# Altium footprint library AMC1301DWVR.PcbLib: 3 footprints
Each footprint in its own frame and in the unit in brackets; x right, y up, seen from the top. Pads: shape width x height; smd on the part's side, far side on the other; paste and mask are expansions set on the pad; w line width, h text height; cw(c..) or ccw(c..) is an arc to the next point about the centre after c.
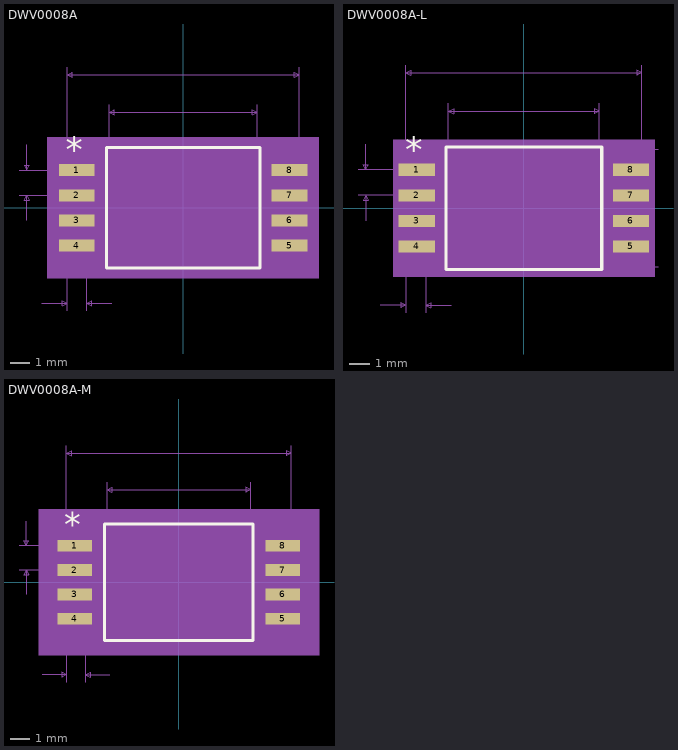
[diagram p0: the footprints below, top view; thin cyan lines are the x and y axes]

## DWV0008A [mil]
pads (8):
  rect 71x24 smd paste+0 mask+3: 1(-211.5,75) 2(-211.5,25) 3(-211.5,-25) 4(-211.5,-75) 5(211.5,-75) 6(211.5,-25) 7(211.5,25) 8(211.5,75)
Top Overlay:
  lines w6: -152.5,-120 -152.5,120 152.5,120 152.5,-120 -152.5,-120
  text "*" at -234,92 h50
Mechanical 5:
  region: 270,-140 -270,-140 -270,140 270,140
Mechanical 7:
  lines w1: -326.5,25 -211.5,25 ; -326.5,75 -211.5,75 ; -311.5,-25 -311.5,25 ; -311.5,125 -311.5,75 ; -281,-190 -231,-190 ; -231,-205 -231,0 -231,280 ; -192,-205 -192,0 ; -147.5,0 -147.5,205 ; -142,-190 -192,-190 ; 0,-115 262.5,-115 ; 0,115 262.5,115 ; 147.5,0 147.5,205 ; 231,0 231,280 ; -311.5,25 -306.5,15 -316.5,15 -311.5,25 ; -311.5,75 -306.5,85 -316.5,85 -311.5,75 ; -231,-190 -241,-195 -241,-185 -231,-190 ; -231,265 -221,260 -221,270 -231,265 ; -231,265 231,265 ; -192,-190 -182,-195 -182,-185 -192,-190 ; -147.5,190 -137.5,185 -137.5,195 -147.5,190 ; -147.5,190 147.5,190 ; 147.5,190 137.5,185 137.5,195 147.5,190 ; 231,265 221,260 221,270 231,265 ; 247.5,-115 252.5,-105 242.5,-105 247.5,-115 ; 247.5,-115 247.5,115 ; 247.5,115 252.5,105 242.5,105 247.5,115
  text "0.039in/0.991mm" at -305.25,-235 h25
  text "0.05in/1.27mm" at -494,37.5 h25
  text "0.23in/5.842mm" at 267.5,-12.5 h25
  text "0.462in/11.735mm" at -100,285 h25
  text "0.295in/7.493mm" at -93.75,210 h25
  text "Alt 2 Padstyle: OX90Y60D30P" at -337.5,-615 h50
  text "Alt 1 Padstyle: RX71Y24D0T" at -325,-555 h50
  text "Pin One Padstyle: RX67Y22D0T" at -350,-375 h50
  text "Default Padstyle: RX67Y22D0T" at -350,-315 h50
Mechanical 13:
  lines w0: -12,115 ccw(c0,115) 12,115
  lines w1: -231,-85 -147.5,-85 -147.5,-65 -231,-65 -231,-85 ; -231,-35 -147.5,-35 -147.5,-15 -231,-15 -231,-35 ; -231,15 -147.5,15 -147.5,35 -231,35 -231,15 ; -231,65 -147.5,65 -147.5,85 -231,85 -231,65 ; -147.5,-115 -147.5,115 147.5,115 147.5,-115 -147.5,-115 ; 147.5,-85 231,-85 231,-65 147.5,-65 147.5,-85 ; 147.5,-35 231,-35 231,-15 147.5,-15 147.5,-35 ; 147.5,15 231,15 231,35 147.5,35 147.5,15 ; 147.5,65 231,65 231,85 147.5,85 147.5,65
  text "*" at -145,62 h50
Mechanical 15:
  region: -157.5,-96 -255,-96 -255,96 -157.5,96 -157.5,125 157.5,125 157.5,96 255,96 255,-96 157.5,-96 157.5,-125 -157.5,-125
  lines w6: -255,-96 -157.5,-96 -157.5,-125 157.5,-125 157.5,-96 255,-96 255,96 157.5,96 157.5,125 -157.5,125 -157.5,96 -255,96 -255,-96
3D body: height 10, standoff 0, extent 0,0 10,10

## DWV0008A-L [mil]
pads (8):
  rect 71x24 smd paste+0 mask+3: 1(-209.5,75) 2(-209.5,25) 3(-209.5,-25) 4(-209.5,-75) 5(209.5,-75) 6(209.5,-25) 7(209.5,25) 8(209.5,75)
Top Overlay:
  lines w6: -152.5,-120 152.5,-120 152.5,120 -152.5,120 -152.5,-120
  text "*" at -232,90 h50
Mechanical 5:
  region: 256,-134 -256,-134 -256,134 256,134
Mechanical 7:
  lines w1: -324.5,25 -209.5,25 ; -324.5,75 -209.5,75 ; -309.5,-25 -309.5,25 ; -309.5,125 -309.5,75 ; -281,-190 -231,-190 ; -231,-205 -231,0 -231,280 ; -192,-205 -192,0 ; -147.5,0 -147.5,205 ; -142,-190 -192,-190 ; 0,-115 262.5,-115 ; 0,115 262.5,115 ; 147.5,0 147.5,205 ; 231,0 231,280 ; -309.5,25 -314.5,15 -304.5,15 -309.5,25 ; -309.5,75 -314.5,85 -304.5,85 -309.5,75 ; -231,-190 -241,-185 -241,-195 -231,-190 ; -231,265 231,265 ; -231,265 -221,270 -221,260 -231,265 ; -192,-190 -182,-185 -182,-195 -192,-190 ; -147.5,190 147.5,190 ; -147.5,190 -137.5,195 -137.5,185 -147.5,190 ; 147.5,190 137.5,195 137.5,185 147.5,190 ; 231,265 221,270 221,260 231,265 ; 247.5,-115 247.5,115 ; 247.5,-115 242.5,-105 252.5,-105 247.5,-115 ; 247.5,115 242.5,105 252.5,105 247.5,115
  text "Default Padstyle: RX55Y20D0T" at -350,-315 h50
  text "Pin One Padstyle: RX55Y20D0T" at -350,-375 h50
  text "Alt 1 Padstyle: RX71Y24D0T" at -325,-555 h50
  text "Alt 2 Padstyle: OX90Y60D30P" at -337.5,-615 h50
  text "0.295in/7.493mm" at -93.75,210 h25
  text "0.462in/11.735mm" at -100,285 h25
  text "0.23in/5.842mm" at 267.5,-12.5 h25
  text "0.05in/1.27mm" at -492,37.5 h25
  text "0.039in/0.991mm" at -305.25,-235 h25
Mechanical 13:
  lines w0: -12,115 ccw(c0,115) 12,115
  lines w1: -231,-85 -231,-65 -147.5,-65 -147.5,-85 -231,-85 ; -231,-35 -231,-15 -147.5,-15 -147.5,-35 -231,-35 ; -231,15 -231,35 -147.5,35 -147.5,15 -231,15 ; -231,65 -231,85 -147.5,85 -147.5,65 -231,65 ; -147.5,-115 147.5,-115 147.5,115 -147.5,115 -147.5,-115 ; 147.5,-85 147.5,-65 231,-65 231,-85 147.5,-85 ; 147.5,-35 147.5,-15 231,-15 231,-35 147.5,-35 ; 147.5,15 147.5,35 231,35 231,15 147.5,15 ; 147.5,65 147.5,85 231,85 231,65 147.5,65
  text "*" at -145,62 h50
Mechanical 15:
  region: -151.5,-89 -241,-89 -241,89 -151.5,89 -151.5,119 151.5,119 151.5,89 241,89 241,-89 151.5,-89 151.5,-119 -151.5,-119
  lines w6: -241,-89 -241,89 -151.5,89 -151.5,119 151.5,119 151.5,89 241,89 241,-89 151.5,-89 151.5,-119 -151.5,-119 -151.5,-89 -241,-89
3D body: height 10, standoff 0, extent 0,0 10,10

## DWV0008A-M [mil]
pads (8):
  rect 71x24 smd paste+0 mask+3: 1(-213.5,75) 2(-213.5,25) 3(-213.5,-25) 4(-213.5,-75) 5(213.5,-75) 6(213.5,-25) 7(213.5,25) 8(213.5,75)
Top Overlay:
  lines w6: -152.5,-120 152.5,-120 152.5,120 -152.5,120 -152.5,-120
  text "*" at -236,94 h50
Mechanical 5:
  region: 288,-150 -288,-150 -288,150 288,150
Mechanical 7:
  lines w1: -328.5,25 -213.5,25 ; -328.5,75 -213.5,75 ; -313.5,-25 -313.5,25 ; -313.5,125 -313.5,75 ; -281,-190 -231,-190 ; -231,-205 -231,0 -231,280 ; -192,-205 -192,0 ; -147.5,0 -147.5,205 ; -142,-190 -192,-190 ; 0,-115 262.5,-115 ; 0,115 262.5,115 ; 147.5,0 147.5,205 ; 231,0 231,280 ; -313.5,25 -318.5,15 -308.5,15 -313.5,25 ; -313.5,75 -318.5,85 -308.5,85 -313.5,75 ; -231,-190 -241,-185 -241,-195 -231,-190 ; -231,265 231,265 ; -231,265 -221,270 -221,260 -231,265 ; -192,-190 -182,-185 -182,-195 -192,-190 ; -147.5,190 147.5,190 ; -147.5,190 -137.5,195 -137.5,185 -147.5,190 ; 147.5,190 137.5,195 137.5,185 147.5,190 ; 231,265 221,270 221,260 231,265 ; 247.5,-115 247.5,115 ; 247.5,-115 242.5,-105 252.5,-105 247.5,-115 ; 247.5,115 242.5,105 252.5,105 247.5,115
  text "Default Padstyle: RX79Y24D0T" at -350,-315 h50
  text "Pin One Padstyle: RX79Y24D0T" at -350,-375 h50
  text "Alt 1 Padstyle: RX71Y24D0T" at -325,-555 h50
  text "Alt 2 Padstyle: OX90Y60D30P" at -337.5,-615 h50
  text "0.295in/7.493mm" at -93.75,210 h25
  text "0.462in/11.735mm" at -100,285 h25
  text "0.23in/5.842mm" at 267.5,-12.5 h25
  text "0.05in/1.27mm" at -496,37.5 h25
  text "0.039in/0.991mm" at -305.25,-235 h25
Mechanical 13:
  lines w0: -12,115 ccw(c0,115) 12,115
  lines w1: -231,-85 -231,-65 -147.5,-65 -147.5,-85 -231,-85 ; -231,-35 -231,-15 -147.5,-15 -147.5,-35 -231,-35 ; -231,15 -231,35 -147.5,35 -147.5,15 -231,15 ; -231,65 -231,85 -147.5,85 -147.5,65 -231,65 ; -147.5,-115 147.5,-115 147.5,115 -147.5,115 -147.5,-115 ; 147.5,-85 147.5,-65 231,-65 231,-85 147.5,-85 ; 147.5,-35 147.5,-15 231,-15 231,-35 147.5,-35 ; 147.5,15 147.5,35 231,35 231,15 147.5,15 ; 147.5,65 147.5,85 231,85 231,65 147.5,65
  text "*" at -145,62 h50
Mechanical 15:
  region: -167.5,-107 -273,-107 -273,107 -167.5,107 -167.5,135 167.5,135 167.5,107 273,107 273,-107 167.5,-107 167.5,-135 -167.5,-135
  lines w6: -273,-107 -273,107 -167.5,107 -167.5,135 167.5,135 167.5,107 273,107 273,-107 167.5,-107 167.5,-135 -167.5,-135 -167.5,-107 -273,-107
3D body: height 10, standoff 0, extent 0,0 10,10